# Altium schematic symbol library kmilo17pet-LT_OpAmp_LT1000.SchLib: 2280 symbols (part 14 of 79)
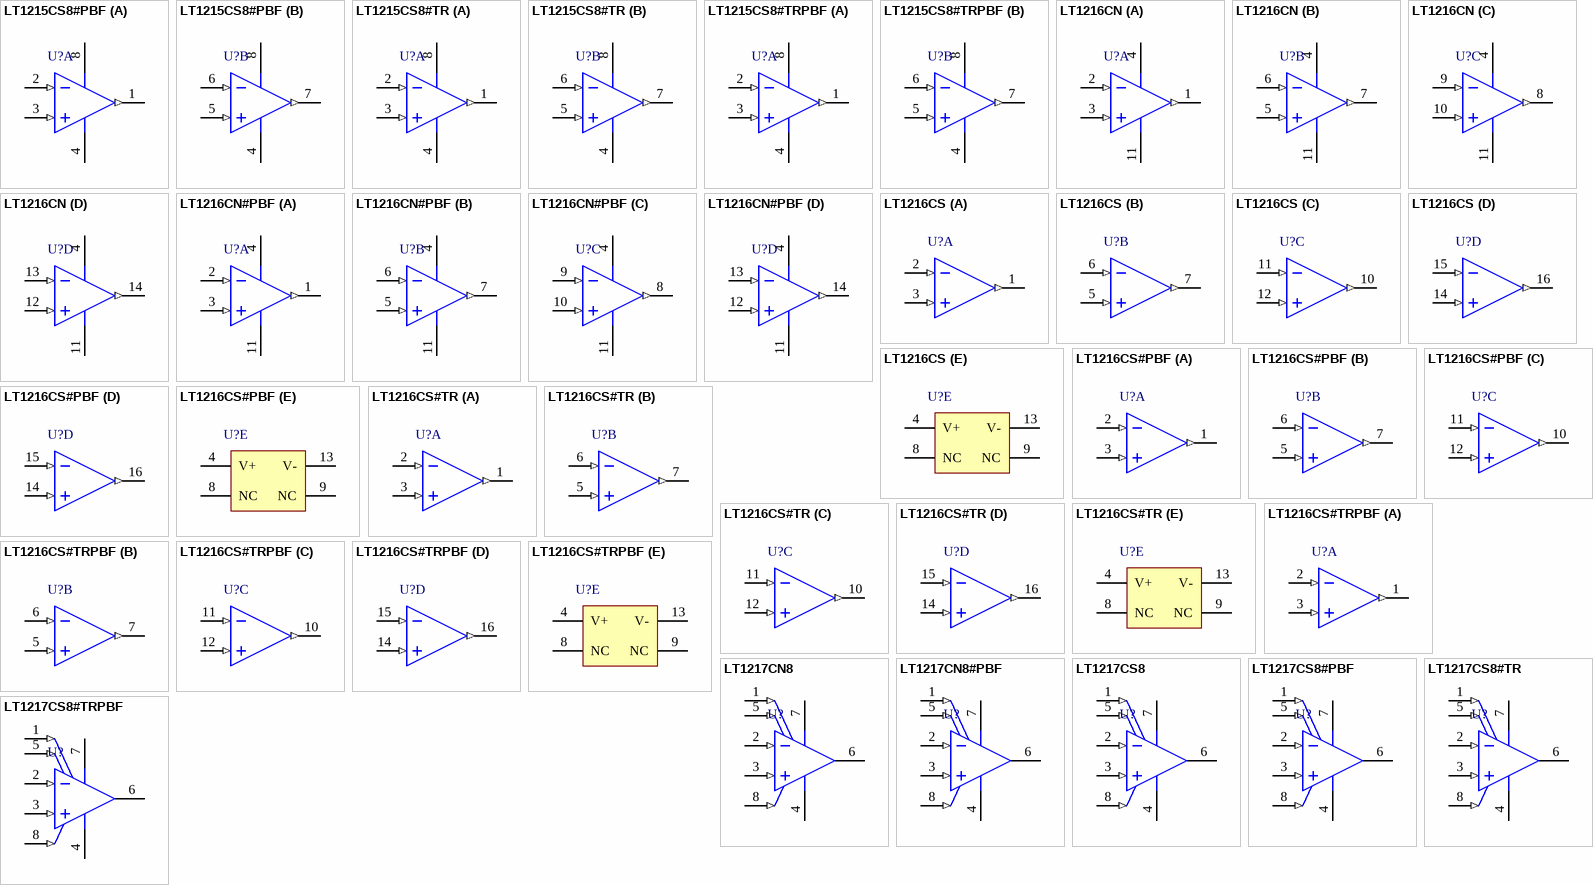
[diagram p118: symbols LT1215CS8#PBF to LT1217CS8#TRPBF]

## LT1216CS#TRPBF
designator U?
Quad Channel, Precision, Fast Operational Amplifier, 23 MHz Typical GBW, 30 V/us Typical SR, 2.5 to 36 V, 16-Pin SOIC (S-16), Commercial, Pb-Free, Reel; Linear Technology Part Number: LT1216; Manufacturer: Linear Technology; PartNumber: LT1216CS#TRPBF; Channels (#): 4; GBW (MHz) Typical: 23; Is (mA) Typical: 4.75; SR (V/us) Typical: 30; Vos (mV) Typical: 0.15; Vs Max (V): 36; Vs Min (V): 2.5; DatasheetVersion: Rev. B; PackageVersion: Rev G; PackageReference: LT-S-16; PackageDescription: 16-Lead Plastic Small Outline, Body 9.9 x 3.9 mm, Pitch 1.27 mm; Supplier 1: Digi-Key; Supplier Part Number 1: LT1216CS#TRPBF-ND; Packing: Reel; RoHS: Pb-Free; Type: VFB; Mounting Technology: Surface Mount; ComponentLink1Description: Manufacturer URL; ComponentLink1URL: http://www.linear.com/; ComponentLink2Description: Datasheet; ComponentLink2URL: http://cds.linear.com/docs/en/datasheet/12156fb.pdf; ComponentLink3Description: Package Specification; ComponentLink3URL: http://cds.linear.com/docs/en/packaging/S16%2005-08-1610%20Rev%20G.pdf
footprint LT-S-16_N (SOP, 16-Leads, Body 9.9x3.9mm, Pitch 1.27mm, IPC Medium Density)
footprint LT-S-16_L (SOP, 16-Leads, Body 9.9x3.9mm, Pitch 1.27mm, IPC High Density)
footprint LT-S-16_M (SOP, 16-Leads, Body 9.9x3.9mm, Pitch 1.27mm, IPC Low Density)
part A pins: 1 OUT A (out), 2 -IN A (in), 3 +IN A (in)
part B pins: 5 +IN B (in), 6 -IN B (in), 7 OUT B (out)
part C pins: 10 OUT C (out), 11 -IN C (in), 12 +IN C (in)
part D pins: 14 +IN D (in), 15 -IN D (in), 16 OUT D (out)
part E pins: 4 V+ (power), 8 NC, 9 NC, 13 V- (power)

## LT1217CN8
designator U?
Single Channel, Low Power CFA, 10 MHz Typical GBW, 500 V/us Typical SR, 10 to 36 V, 8-Pin DIP (N8-8), Commercial; Linear Technology Part Number: LT1217; Manufacturer: Linear Technology; PartNumber: LT1217CN8; Channels (#): 1; GBW (MHz) Typical: 10; SR (V/us) Typical: 500; Vs Max (V): 36; DatasheetVersion: Rev. 0; PackageVersion: Rev I; PackageReference: LT-N8-8; PackageDescription: 8-Lead PDIP, Body 10.16 x 6.48 mm, Pitch 2.54 mm; Supplier 1: Digi-Key; Supplier Part Number 1: LT1217CN8-ND; Is (mA) Typical: 1; Type: CFA; Vos (mV) Typical: 1; Vs Min (V): 10; Mounting Technology: Surface Mount; ComponentLink1Description: Manufacturer URL; ComponentLink1URL: http://www.linear.com/; ComponentLink2Description: Datasheet; ComponentLink2URL: http://cds.linear.com/docs/en/datasheet/lt1217.pdf; ComponentLink3Description: Package Specification; ComponentLink3URL: http://cds.linear.com/docs/en/packaging/05081510_I_N8.pdf
footprint LT-N8-8 (DIP, 8-Leads, Body 10.16x6.48mm, Pitch 2.54mm)
pins: 1 NULL (in), 2 -IN (in), 3 +IN (in), 4 V- (power), 5 NULL (in), 6 OUT (hiz), 7 V+ (power), 8 SHUTDOWN (in)

## LT1217CN8#PBF
designator U?
Single Channel, Low Power CFA, 10 MHz Typical GBW, 500 V/us Typical SR, 10 to 36 V, 8-Pin DIP (N8-8), Commercial, Pb-Free; Linear Technology Part Number: LT1217; Manufacturer: Linear Technology; PartNumber: LT1217CN8#PBF; Channels (#): 1; GBW (MHz) Typical: 10; SR (V/us) Typical: 500; Vs Max (V): 36; DatasheetVersion: Rev. 0; PackageVersion: Rev I; PackageReference: LT-N8-8; PackageDescription: 8-Lead PDIP, Body 10.16 x 6.48 mm, Pitch 2.54 mm; Supplier 1: Digi-Key; Supplier Part Number 1: LT1217CN8#PBF-ND; Is (mA) Typical: 1; RoHS: Pb-Free; Type: CFA; Vos (mV) Typical: 1; Vs Min (V): 10; Mounting Technology: Through Hole; ComponentLink1Description: Manufacturer URL; ComponentLink1URL: http://www.linear.com/; ComponentLink2Description: Datasheet; ComponentLink2URL: http://cds.linear.com/docs/en/datasheet/lt1217.pdf; ComponentLink3Description: Package Specification; ComponentLink3URL: http://cds.linear.com/docs/en/packaging/05081510_I_N8.pdf
footprint LT-N8-8 (DIP, 8-Leads, Body 10.16x6.48mm, Pitch 2.54mm)
pins: 1 NULL (in), 2 -IN (in), 3 +IN (in), 4 V- (power), 5 NULL (in), 6 OUT (hiz), 7 V+ (power), 8 SHUTDOWN (in)

## LT1217CS8
designator U?
Single Channel, Low Power CFA, 10 MHz Typical GBW, 500 V/us Typical SR, 10 to 36 V, 8-Pin SOIC (S8-8), Commercial; Linear Technology Part Number: LT1217; Manufacturer: Linear Technology; PartNumber: LT1217CS8; Channels (#): 1; GBW (MHz) Typical: 10; SR (V/us) Typical: 500; Vs Max (V): 36; DatasheetVersion: Rev. 0; PackageVersion: Rev G; PackageReference: LT-S8-8; PackageDescription: 8-Pin Plastic Small Outline, Body 4.9 x 3.9 mm, Pitch 1.27 mm; Supplier 1: Digi-Key; Supplier Part Number 1: LT1217CS8-ND; Is (mA) Typical: 1; Type: CFA; Vos (mV) Typical: 1; Vs Min (V): 10; Mounting Technology: Surface Mount; ComponentLink1Description: Manufacturer URL; ComponentLink1URL: http://www.linear.com/; ComponentLink2Description: Datasheet; ComponentLink2URL: http://cds.linear.com/docs/en/datasheet/lt1217.pdf; ComponentLink3Description: Package Specification; ComponentLink3URL: http://cds.linear.com/docs/en/packaging/05081610_G_SO8.pdf
footprint LT-S8-8_N (SOIC, 8-Leads, Body 4.9x3.9mm, Pitch 1.27mm, IPC Medium Density)
footprint LT-S8-8_L (SOIC, 8-Leads, Body 4.9x3.9mm, Pitch 1.27mm, IPC High Density)
footprint LT-S8-8_M (SOIC, 8-Leads, Body 4.9x3.9mm, Pitch 1.27mm, IPC Low Density)
pins: 1 NULL (in), 2 -IN (in), 3 +IN (in), 4 V- (power), 5 NULL (in), 6 OUT (hiz), 7 V+ (power), 8 SHUTDOWN (in)

## LT1217CS8#PBF
designator U?
Single Channel, Low Power CFA, 10 MHz Typical GBW, 500 V/us Typical SR, 10 to 36 V, 8-Pin SOIC (S8-8), Commercial, Pb-Free; Linear Technology Part Number: LT1217; Manufacturer: Linear Technology; PartNumber: LT1217CS8#PBF; Channels (#): 1; GBW (MHz) Typical: 10; SR (V/us) Typical: 500; Vs Max (V): 36; DatasheetVersion: Rev. 0; PackageVersion: Rev G; PackageReference: LT-S8-8; PackageDescription: 8-Pin Plastic Small Outline, Body 4.9 x 3.9 mm, Pitch 1.27 mm; Supplier 1: Digi-Key; Supplier Part Number 1: LT1217CS8#PBF-ND; Supplier 2: Farnell; Supplier Part Number 2: 2238146; Supplier 3: Newark; Supplier Part Number 3: 57M2763; Is (mA) Typical: 1; RoHS: Pb-Free; Type: CFA; Vos (mV) Typical: 1; Vs Min (V): 10; Mounting Technology: Surface Mount; ComponentLink1Description: Manufacturer URL; ComponentLink1URL: http://www.linear.com/; ComponentLink2Description: Datasheet; ComponentLink2URL: http://cds.linear.com/docs/en/datasheet/lt1217.pdf; ComponentLink3Description: Package Specification; ComponentLink3URL: http://cds.linear.com/docs/en/packaging/05081610_G_SO8.pdf
footprint LT-S8-8_N (SOIC, 8-Leads, Body 4.9x3.9mm, Pitch 1.27mm, IPC Medium Density)
footprint LT-S8-8_L (SOIC, 8-Leads, Body 4.9x3.9mm, Pitch 1.27mm, IPC High Density)
footprint LT-S8-8_M (SOIC, 8-Leads, Body 4.9x3.9mm, Pitch 1.27mm, IPC Low Density)
pins: 1 NULL (in), 2 -IN (in), 3 +IN (in), 4 V- (power), 5 NULL (in), 6 OUT (hiz), 7 V+ (power), 8 SHUTDOWN (in)

## LT1217CS8#TR
designator U?
Single Channel, Low Power CFA, 10 MHz Typical GBW, 500 V/us Typical SR, 10 to 36 V, 8-Pin SOIC (S8-8), Commercial, Reel; Linear Technology Part Number: LT1217; Manufacturer: Linear Technology; PartNumber: LT1217CS8#TR; Channels (#): 1; GBW (MHz) Typical: 10; SR (V/us) Typical: 500; Vs Max (V): 36; DatasheetVersion: Rev. 0; PackageVersion: Rev G; PackageReference: LT-S8-8; PackageDescription: 8-Pin Plastic Small Outline, Body 4.9 x 3.9 mm, Pitch 1.27 mm; Supplier 1: Digi-Key; Supplier Part Number 1: LT1217CS8#TR-ND; Is (mA) Typical: 1; Packing: Reel; Type: CFA; Vos (mV) Typical: 1; Vs Min (V): 10; Mounting Technology: Surface Mount; ComponentLink1Description: Manufacturer URL; ComponentLink1URL: http://www.linear.com/; ComponentLink2Description: Datasheet; ComponentLink2URL: http://cds.linear.com/docs/en/datasheet/lt1217.pdf; ComponentLink3Description: Package Specification; ComponentLink3URL: http://cds.linear.com/docs/en/packaging/05081610_G_SO8.pdf
footprint LT-S8-8_N (SOIC, 8-Leads, Body 4.9x3.9mm, Pitch 1.27mm, IPC Medium Density)
footprint LT-S8-8_L (SOIC, 8-Leads, Body 4.9x3.9mm, Pitch 1.27mm, IPC High Density)
footprint LT-S8-8_M (SOIC, 8-Leads, Body 4.9x3.9mm, Pitch 1.27mm, IPC Low Density)
pins: 1 NULL (in), 2 -IN (in), 3 +IN (in), 4 V- (power), 5 NULL (in), 6 OUT (hiz), 7 V+ (power), 8 SHUTDOWN (in)

## LT1217CS8#TRPBF
designator U?
Single Channel, Low Power CFA, 10 MHz Typical GBW, 500 V/us Typical SR, 10 to 36 V, 8-Pin SOIC (S8-8), Commercial, Pb-Free, Reel; Linear Technology Part Number: LT1217; Manufacturer: Linear Technology; PartNumber: LT1217CS8#TRPBF; Channels (#): 1; GBW (MHz) Typical: 10; SR (V/us) Typical: 500; Vs Max (V): 36; DatasheetVersion: Rev. 0; PackageVersion: Rev G; PackageReference: LT-S8-8; PackageDescription: 8-Pin Plastic Small Outline, Body 4.9 x 3.9 mm, Pitch 1.27 mm; Supplier 1: Digi-Key; Supplier Part Number 1: LT1217CS8#TRPBF-ND; Is (mA) Typical: 1; Packing: Reel; RoHS: Pb-Free; Type: CFA; Vos (mV) Typical: 1; Vs Min (V): 10; Mounting Technology: Surface Mount; ComponentLink1Description: Manufacturer URL; ComponentLink1URL: http://www.linear.com/; ComponentLink2Description: Datasheet; ComponentLink2URL: http://cds.linear.com/docs/en/datasheet/lt1217.pdf; ComponentLink3Description: Package Specification; ComponentLink3URL: http://cds.linear.com/docs/en/packaging/05081610_G_SO8.pdf
footprint LT-S8-8_N (SOIC, 8-Leads, Body 4.9x3.9mm, Pitch 1.27mm, IPC Medium Density)
footprint LT-S8-8_L (SOIC, 8-Leads, Body 4.9x3.9mm, Pitch 1.27mm, IPC High Density)
footprint LT-S8-8_M (SOIC, 8-Leads, Body 4.9x3.9mm, Pitch 1.27mm, IPC Low Density)
pins: 1 NULL (in), 2 -IN (in), 3 +IN (in), 4 V- (power), 5 NULL (in), 6 OUT (hiz), 7 V+ (power), 8 SHUTDOWN (in)

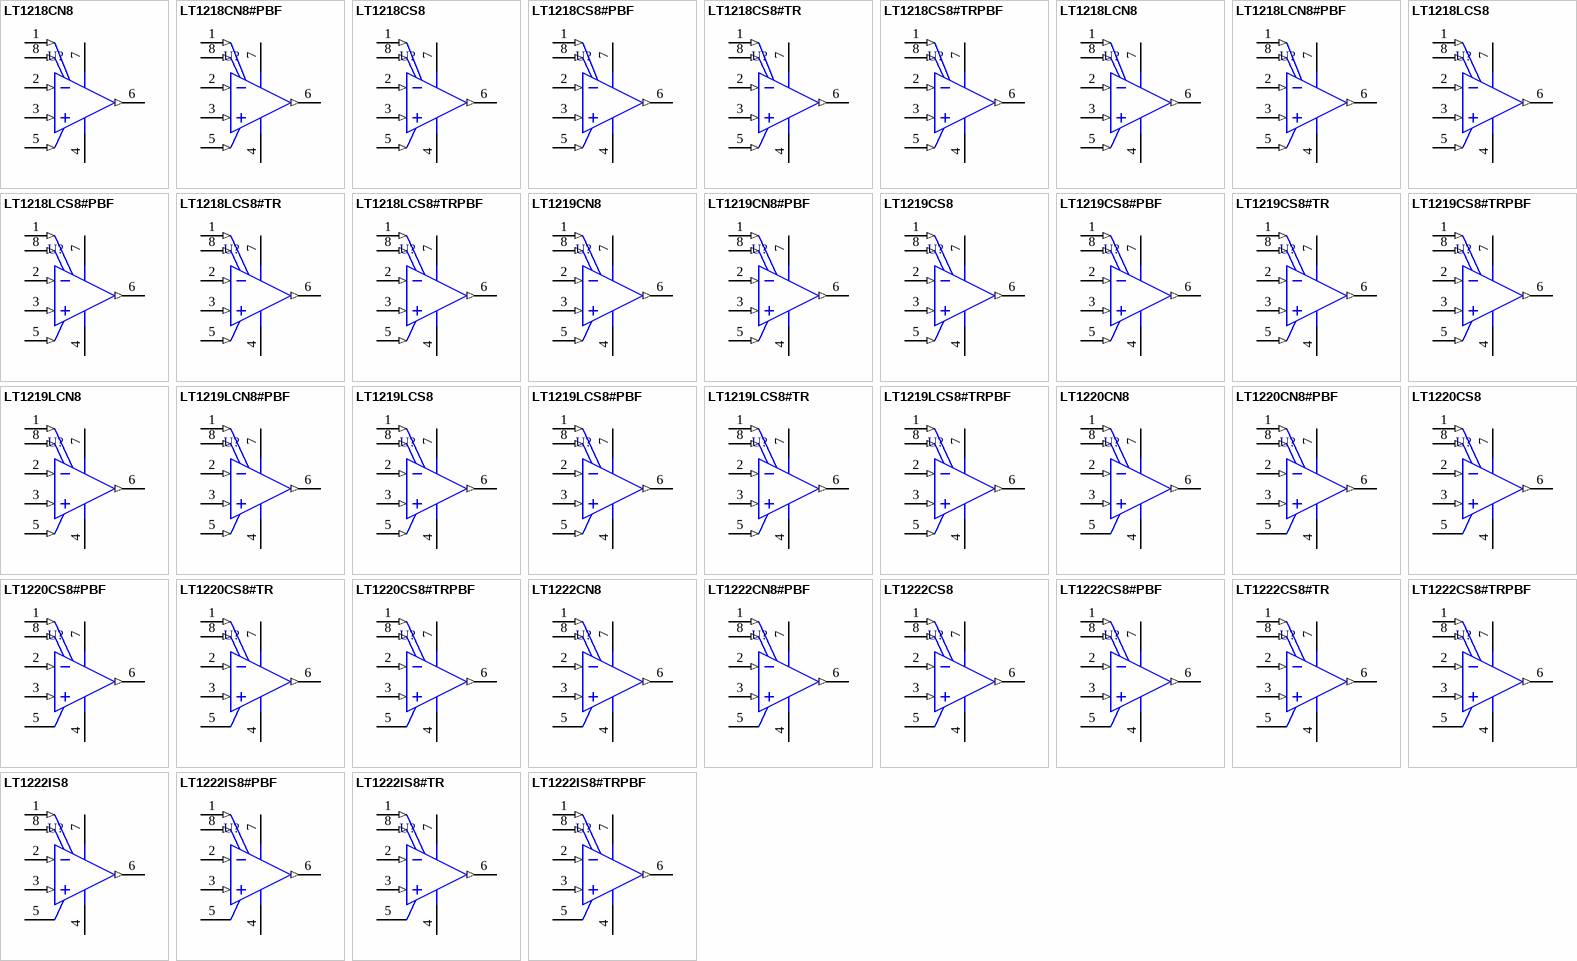
[diagram p20: symbols LT1218CN8 to LT1222IS8#TRPBF]

## LT1218CN8
designator U?
Single Channel, Low Vos Operational Amplifier, 0.3 MHz Typical GBW, 0.1 V/us Typical SR, 2 to 36 V, 8-Pin DIP (N8-8), Commercial; Linear Technology Part Number: LT1218; Manufacturer: Linear Technology; PartNumber: LT1218CN8; Channels (#): 1; GBW (MHz) Typical: 0.3; Is (mA) Typical: 0.37; SR (V/us) Typical: 0.1; Vos (mV) Typical: 0.025; Vs Max (V): 36; Vs Min (V): 2; PackageVersion: Rev I; PackageReference: LT-N8-8; PackageDescription: 8-Lead PDIP, Body 10.16 x 6.48 mm, Pitch 2.54 mm; Supplier 1: Digi-Key; Supplier Part Number 1: LT1218CN8-ND; Type: VFB; Mounting Technology: Surface Mount; ComponentLink1Description: Manufacturer URL; ComponentLink1URL: http://www.linear.com/; ComponentLink2Description: Datasheet; ComponentLink2URL: http://cds.linear.com/docs/en/datasheet/12189f.pdf; ComponentLink3Description: Package Specification; ComponentLink3URL: http://cds.linear.com/docs/en/packaging/05081510_I_N8.pdf
footprint LT-N8-8 (DIP, 8-Leads, Body 10.16x6.48mm, Pitch 2.54mm)
pins: 1 VOS TRIM (in), 2 -IN (in), 3 +IN (in), 4 V- (power), 5 ~{SHDN} (in), 6 OUT (out), 7 V+ (power), 8 VOS TRIM (in)

## LT1218CN8#PBF
designator U?
Single Channel, Low Vos Operational Amplifier, 0.3 MHz Typical GBW, 0.1 V/us Typical SR, 2 to 36 V, 8-Pin DIP (N8-8), Commercial, Pb-Free; Linear Technology Part Number: LT1218; Manufacturer: Linear Technology; PartNumber: LT1218CN8#PBF; Channels (#): 1; GBW (MHz) Typical: 0.3; Is (mA) Typical: 0.37; SR (V/us) Typical: 0.1; Vos (mV) Typical: 0.025; Vs Max (V): 36; Vs Min (V): 2; PackageVersion: Rev I; PackageReference: LT-N8-8; PackageDescription: 8-Lead PDIP, Body 10.16 x 6.48 mm, Pitch 2.54 mm; Supplier 1: Digi-Key; Supplier Part Number 1: LT1218CN8#PBF-ND; Supplier 2: Farnell; Supplier Part Number 2: 1330616; Supplier 3: Newark; Supplier Part Number 3: 57M2767; RoHS: Pb-Free; Type: VFB; Mounting Technology: Through Hole; ComponentLink1Description: Manufacturer URL; ComponentLink1URL: http://www.linear.com/; ComponentLink2Description: Datasheet; ComponentLink2URL: http://cds.linear.com/docs/en/datasheet/12189f.pdf; ComponentLink3Description: Package Specification; ComponentLink3URL: http://cds.linear.com/docs/en/packaging/05081510_I_N8.pdf
footprint LT-N8-8 (DIP, 8-Leads, Body 10.16x6.48mm, Pitch 2.54mm)
pins: 1 VOS TRIM (in), 2 -IN (in), 3 +IN (in), 4 V- (power), 5 ~{SHDN} (in), 6 OUT (out), 7 V+ (power), 8 VOS TRIM (in)

## LT1218CS8
designator U?
Single Channel, Low Vos Operational Amplifier, 0.3 MHz Typical GBW, 0.1 V/us Typical SR, 2 to 36 V, 8-Pin SOIC (S8-8), Commercial; Linear Technology Part Number: LT1218; Manufacturer: Linear Technology; PartNumber: LT1218CS8; Channels (#): 1; GBW (MHz) Typical: 0.3; Is (mA) Typical: 0.37; SR (V/us) Typical: 0.1; Vos (mV) Typical: 0.025; Vs Max (V): 36; Vs Min (V): 2; PackageVersion: Rev G; PackageReference: LT-S8-8; PackageDescription: 8-Pin Plastic Small Outline, Body 4.9 x 3.9 mm, Pitch 1.27 mm; Supplier 1: Digi-Key; Supplier Part Number 1: LT1218CS8-ND; Type: VFB; Mounting Technology: Surface Mount; ComponentLink1Description: Manufacturer URL; ComponentLink1URL: http://www.linear.com/; ComponentLink2Description: Datasheet; ComponentLink2URL: http://cds.linear.com/docs/en/datasheet/12189f.pdf; ComponentLink3Description: Package Specification; ComponentLink3URL: http://cds.linear.com/docs/en/packaging/05081610_G_SO8.pdf
footprint LT-S8-8_N (SOIC, 8-Leads, Body 4.9x3.9mm, Pitch 1.27mm, IPC Medium Density)
footprint LT-S8-8_L (SOIC, 8-Leads, Body 4.9x3.9mm, Pitch 1.27mm, IPC High Density)
footprint LT-S8-8_M (SOIC, 8-Leads, Body 4.9x3.9mm, Pitch 1.27mm, IPC Low Density)
pins: 1 VOS TRIM (in), 2 -IN (in), 3 +IN (in), 4 V- (power), 5 ~{SHDN} (in), 6 OUT (out), 7 V+ (power), 8 VOS TRIM (in)

## LT1218CS8#PBF
designator U?
Single Channel, Low Vos Operational Amplifier, 0.3 MHz Typical GBW, 0.1 V/us Typical SR, 2 to 36 V, 8-Pin SOIC (S8-8), Commercial, Pb-Free; Linear Technology Part Number: LT1218; Manufacturer: Linear Technology; PartNumber: LT1218CS8#PBF; Channels (#): 1; GBW (MHz) Typical: 0.3; Is (mA) Typical: 0.37; SR (V/us) Typical: 0.1; Vos (mV) Typical: 0.025; Vs Max (V): 36; Vs Min (V): 2; PackageVersion: Rev G; PackageReference: LT-S8-8; PackageDescription: 8-Pin Plastic Small Outline, Body 4.9 x 3.9 mm, Pitch 1.27 mm; Supplier 1: Digi-Key; Supplier Part Number 1: LT1218CS8#PBF-ND; RoHS: Pb-Free; Type: VFB; Mounting Technology: Surface Mount; ComponentLink1Description: Manufacturer URL; ComponentLink1URL: http://www.linear.com/; ComponentLink2Description: Datasheet; ComponentLink2URL: http://cds.linear.com/docs/en/datasheet/12189f.pdf; ComponentLink3Description: Package Specification; ComponentLink3URL: http://cds.linear.com/docs/en/packaging/05081610_G_SO8.pdf
footprint LT-S8-8_N (SOIC, 8-Leads, Body 4.9x3.9mm, Pitch 1.27mm, IPC Medium Density)
footprint LT-S8-8_L (SOIC, 8-Leads, Body 4.9x3.9mm, Pitch 1.27mm, IPC High Density)
footprint LT-S8-8_M (SOIC, 8-Leads, Body 4.9x3.9mm, Pitch 1.27mm, IPC Low Density)
pins: 1 VOS TRIM (in), 2 -IN (in), 3 +IN (in), 4 V- (power), 5 ~{SHDN} (in), 6 OUT (out), 7 V+ (power), 8 VOS TRIM (in)

## LT1218CS8#TR
designator U?
Single Channel, Low Vos Operational Amplifier, 0.3 MHz Typical GBW, 0.1 V/us Typical SR, 2 to 36 V, 8-Pin SOIC (S8-8), Commercial, Reel; Linear Technology Part Number: LT1218; Manufacturer: Linear Technology; PartNumber: LT1218CS8#TR; Channels (#): 1; GBW (MHz) Typical: 0.3; Is (mA) Typical: 0.37; SR (V/us) Typical: 0.1; Vos (mV) Typical: 0.025; Vs Max (V): 36; Vs Min (V): 2; PackageVersion: Rev G; PackageReference: LT-S8-8; PackageDescription: 8-Pin Plastic Small Outline, Body 4.9 x 3.9 mm, Pitch 1.27 mm; Supplier 1: Digi-Key; Supplier Part Number 1: LT1218CS8#TR-ND; Packing: Reel; Type: VFB; Mounting Technology: Surface Mount; ComponentLink1Description: Manufacturer URL; ComponentLink1URL: http://www.linear.com/; ComponentLink2Description: Datasheet; ComponentLink2URL: http://cds.linear.com/docs/en/datasheet/12189f.pdf; ComponentLink3Description: Package Specification; ComponentLink3URL: http://cds.linear.com/docs/en/packaging/05081610_G_SO8.pdf
footprint LT-S8-8_N (SOIC, 8-Leads, Body 4.9x3.9mm, Pitch 1.27mm, IPC Medium Density)
footprint LT-S8-8_L (SOIC, 8-Leads, Body 4.9x3.9mm, Pitch 1.27mm, IPC High Density)
footprint LT-S8-8_M (SOIC, 8-Leads, Body 4.9x3.9mm, Pitch 1.27mm, IPC Low Density)
pins: 1 VOS TRIM (in), 2 -IN (in), 3 +IN (in), 4 V- (power), 5 ~{SHDN} (in), 6 OUT (out), 7 V+ (power), 8 VOS TRIM (in)

## LT1218CS8#TRPBF
designator U?
Single Channel, Low Vos Operational Amplifier, 0.3 MHz Typical GBW, 0.1 V/us Typical SR, 2 to 36 V, 8-Pin SOIC (S8-8), Commercial, Pb-Free, Reel; Linear Technology Part Number: LT1218; Manufacturer: Linear Technology; PartNumber: LT1218CS8#TRPBF; Channels (#): 1; GBW (MHz) Typical: 0.3; Is (mA) Typical: 0.37; SR (V/us) Typical: 0.1; Vos (mV) Typical: 0.025; Vs Max (V): 36; Vs Min (V): 2; PackageVersion: Rev G; PackageReference: LT-S8-8; PackageDescription: 8-Pin Plastic Small Outline, Body 4.9 x 3.9 mm, Pitch 1.27 mm; Supplier 1: Digi-Key; Supplier Part Number 1: LT1218CS8#TRPBF-ND; Packing: Reel; RoHS: Pb-Free; Type: VFB; Mounting Technology: Surface Mount; ComponentLink1Description: Manufacturer URL; ComponentLink1URL: http://www.linear.com/; ComponentLink2Description: Datasheet; ComponentLink2URL: http://cds.linear.com/docs/en/datasheet/12189f.pdf; ComponentLink3Description: Package Specification; ComponentLink3URL: http://cds.linear.com/docs/en/packaging/05081610_G_SO8.pdf
footprint LT-S8-8_N (SOIC, 8-Leads, Body 4.9x3.9mm, Pitch 1.27mm, IPC Medium Density)
footprint LT-S8-8_L (SOIC, 8-Leads, Body 4.9x3.9mm, Pitch 1.27mm, IPC High Density)
footprint LT-S8-8_M (SOIC, 8-Leads, Body 4.9x3.9mm, Pitch 1.27mm, IPC Low Density)
pins: 1 VOS TRIM (in), 2 -IN (in), 3 +IN (in), 4 V- (power), 5 ~{SHDN} (in), 6 OUT (out), 7 V+ (power), 8 VOS TRIM (in)

## LT1218LCN8
designator U?
Single Channel, Low Vos Operational Amplifier, 0.3 MHz Typical GBW, 0.1 V/us Typical SR, 2 to 16 V, 8-Pin DIP (N8-8), Commercial; Linear Technology Part Number: LT1218L; Manufacturer: Linear Technology; PartNumber: LT1218LCN8; Channels (#): 1; GBW (MHz) Typical: 0.3; Is (mA) Typical: 0.37; SR (V/us) Typical: 0.1; Vos (mV) Typical: 0.025; Vs Max (V): 16; Vs Min (V): 2; PackageVersion: Rev I; PackageReference: LT-N8-8; PackageDescription: 8-Lead PDIP, Body 10.16 x 6.48 mm, Pitch 2.54 mm; Supplier 1: Digi-Key; Supplier Part Number 1: LT1218LCN8-ND; Type: VFB; Mounting Technology: Surface Mount; ComponentLink1Description: Manufacturer URL; ComponentLink1URL: http://www.linear.com/; ComponentLink2Description: Datasheet; ComponentLink2URL: http://cds.linear.com/docs/en/datasheet/12189f.pdf; ComponentLink3Description: Package Specification; ComponentLink3URL: http://cds.linear.com/docs/en/packaging/05081510_I_N8.pdf
footprint LT-N8-8 (DIP, 8-Leads, Body 10.16x6.48mm, Pitch 2.54mm)
pins: 1 VOS TRIM (in), 2 -IN (in), 3 +IN (in), 4 V- (power), 5 ~{SHDN} (in), 6 OUT (out), 7 V+ (power), 8 VOS TRIM (in)

## LT1218LCN8#PBF
designator U?
Single Channel, Low Vos Operational Amplifier, 0.3 MHz Typical GBW, 0.1 V/us Typical SR, 2 to 16 V, 8-Pin DIP (N8-8), Commercial, Pb-Free; Linear Technology Part Number: LT1218L; Manufacturer: Linear Technology; PartNumber: LT1218LCN8#PBF; Channels (#): 1; GBW (MHz) Typical: 0.3; Is (mA) Typical: 0.37; SR (V/us) Typical: 0.1; Vos (mV) Typical: 0.025; Vs Max (V): 16; Vs Min (V): 2; PackageVersion: Rev I; PackageReference: LT-N8-8; PackageDescription: 8-Lead PDIP, Body 10.16 x 6.48 mm, Pitch 2.54 mm; Supplier 1: Digi-Key; Supplier Part Number 1: LT1218LCN8#PBF-ND; RoHS: Pb-Free; Type: VFB; Mounting Technology: Through Hole; ComponentLink1Description: Manufacturer URL; ComponentLink1URL: http://www.linear.com/; ComponentLink2Description: Datasheet; ComponentLink2URL: http://cds.linear.com/docs/en/datasheet/12189f.pdf; ComponentLink3Description: Package Specification; ComponentLink3URL: http://cds.linear.com/docs/en/packaging/05081510_I_N8.pdf
footprint LT-N8-8 (DIP, 8-Leads, Body 10.16x6.48mm, Pitch 2.54mm)
pins: 1 VOS TRIM (in), 2 -IN (in), 3 +IN (in), 4 V- (power), 5 ~{SHDN} (in), 6 OUT (out), 7 V+ (power), 8 VOS TRIM (in)

## LT1218LCS8
designator U?
Single Channel, Low Vos Operational Amplifier, 0.3 MHz Typical GBW, 0.1 V/us Typical SR, 2 to 16 V, 8-Pin SOIC (S8-8), Commercial; Linear Technology Part Number: LT1218L; Manufacturer: Linear Technology; PartNumber: LT1218LCS8; Channels (#): 1; GBW (MHz) Typical: 0.3; Is (mA) Typical: 0.37; SR (V/us) Typical: 0.1; Vos (mV) Typical: 0.025; Vs Max (V): 16; Vs Min (V): 2; PackageVersion: Rev G; PackageReference: LT-S8-8; PackageDescription: 8-Pin Plastic Small Outline, Body 4.9 x 3.9 mm, Pitch 1.27 mm; Supplier 1: Digi-Key; Supplier Part Number 1: LT1218LCS8-ND; Type: VFB; Mounting Technology: Surface Mount; ComponentLink1Description: Manufacturer URL; ComponentLink1URL: http://www.linear.com/; ComponentLink2Description: Datasheet; ComponentLink2URL: http://cds.linear.com/docs/en/datasheet/12189f.pdf; ComponentLink3Description: Package Specification; ComponentLink3URL: http://cds.linear.com/docs/en/packaging/05081610_G_SO8.pdf
footprint LT-S8-8_N (SOIC, 8-Leads, Body 4.9x3.9mm, Pitch 1.27mm, IPC Medium Density)
footprint LT-S8-8_L (SOIC, 8-Leads, Body 4.9x3.9mm, Pitch 1.27mm, IPC High Density)
footprint LT-S8-8_M (SOIC, 8-Leads, Body 4.9x3.9mm, Pitch 1.27mm, IPC Low Density)
pins: 1 VOS TRIM (in), 2 -IN (in), 3 +IN (in), 4 V- (power), 5 ~{SHDN} (in), 6 OUT (out), 7 V+ (power), 8 VOS TRIM (in)

## LT1218LCS8#PBF
designator U?
Single Channel, Low Vos Operational Amplifier, 0.3 MHz Typical GBW, 0.1 V/us Typical SR, 2 to 16 V, 8-Pin SOIC (S8-8), Commercial, Pb-Free; Linear Technology Part Number: LT1218L; Manufacturer: Linear Technology; PartNumber: LT1218LCS8#PBF; Channels (#): 1; GBW (MHz) Typical: 0.3; Is (mA) Typical: 0.37; SR (V/us) Typical: 0.1; Vos (mV) Typical: 0.025; Vs Max (V): 16; Vs Min (V): 2; PackageVersion: Rev G; PackageReference: LT-S8-8; PackageDescription: 8-Pin Plastic Small Outline, Body 4.9 x 3.9 mm, Pitch 1.27 mm; Supplier 1: Digi-Key; Supplier Part Number 1: LT1218LCS8#PBF-ND; Supplier 2: Farnell; Supplier Part Number 2: 1663399; RoHS: Pb-Free; Type: VFB; Mounting Technology: Surface Mount; ComponentLink1Description: Manufacturer URL; ComponentLink1URL: http://www.linear.com/; ComponentLink2Description: Datasheet; ComponentLink2URL: http://cds.linear.com/docs/en/datasheet/12189f.pdf; ComponentLink3Description: Package Specification; ComponentLink3URL: http://cds.linear.com/docs/en/packaging/05081610_G_SO8.pdf
footprint LT-S8-8_N (SOIC, 8-Leads, Body 4.9x3.9mm, Pitch 1.27mm, IPC Medium Density)
footprint LT-S8-8_L (SOIC, 8-Leads, Body 4.9x3.9mm, Pitch 1.27mm, IPC High Density)
footprint LT-S8-8_M (SOIC, 8-Leads, Body 4.9x3.9mm, Pitch 1.27mm, IPC Low Density)
pins: 1 VOS TRIM (in), 2 -IN (in), 3 +IN (in), 4 V- (power), 5 ~{SHDN} (in), 6 OUT (out), 7 V+ (power), 8 VOS TRIM (in)

## LT1218LCS8#TR
designator U?
Single Channel, Low Vos Operational Amplifier, 0.3 MHz Typical GBW, 0.1 V/us Typical SR, 2 to 16 V, 8-Pin SOIC (S8-8), Commercial, Reel; Linear Technology Part Number: LT1218L; Manufacturer: Linear Technology; PartNumber: LT1218LCS8#TR; Channels (#): 1; GBW (MHz) Typical: 0.3; Is (mA) Typical: 0.37; SR (V/us) Typical: 0.1; Vos (mV) Typical: 0.025; Vs Max (V): 16; Vs Min (V): 2; PackageVersion: Rev G; PackageReference: LT-S8-8; PackageDescription: 8-Pin Plastic Small Outline, Body 4.9 x 3.9 mm, Pitch 1.27 mm; Supplier 1: Digi-Key; Supplier Part Number 1: LT1218LCS8#TR-ND; Packing: Reel; Type: VFB; Mounting Technology: Surface Mount; ComponentLink1Description: Manufacturer URL; ComponentLink1URL: http://www.linear.com/; ComponentLink2Description: Datasheet; ComponentLink2URL: http://cds.linear.com/docs/en/datasheet/12189f.pdf; ComponentLink3Description: Package Specification; ComponentLink3URL: http://cds.linear.com/docs/en/packaging/05081610_G_SO8.pdf
footprint LT-S8-8_N (SOIC, 8-Leads, Body 4.9x3.9mm, Pitch 1.27mm, IPC Medium Density)
footprint LT-S8-8_L (SOIC, 8-Leads, Body 4.9x3.9mm, Pitch 1.27mm, IPC High Density)
footprint LT-S8-8_M (SOIC, 8-Leads, Body 4.9x3.9mm, Pitch 1.27mm, IPC Low Density)
pins: 1 VOS TRIM (in), 2 -IN (in), 3 +IN (in), 4 V- (power), 5 ~{SHDN} (in), 6 OUT (out), 7 V+ (power), 8 VOS TRIM (in)

## LT1218LCS8#TRPBF
designator U?
Single Channel, Low Vos Operational Amplifier, 0.3 MHz Typical GBW, 0.1 V/us Typical SR, 2 to 16 V, 8-Pin SOIC (S8-8), Commercial, Pb-Free, Reel; Linear Technology Part Number: LT1218L; Manufacturer: Linear Technology; PartNumber: LT1218LCS8#TRPBF; Channels (#): 1; GBW (MHz) Typical: 0.3; Is (mA) Typical: 0.37; SR (V/us) Typical: 0.1; Vos (mV) Typical: 0.025; Vs Max (V): 16; Vs Min (V): 2; PackageVersion: Rev G; PackageReference: LT-S8-8; PackageDescription: 8-Pin Plastic Small Outline, Body 4.9 x 3.9 mm, Pitch 1.27 mm; Supplier 1: Digi-Key; Supplier Part Number 1: LT1218LCS8#TRPBF-ND; Packing: Reel; RoHS: Pb-Free; Type: VFB; Mounting Technology: Surface Mount; ComponentLink1Description: Manufacturer URL; ComponentLink1URL: http://www.linear.com/; ComponentLink2Description: Datasheet; ComponentLink2URL: http://cds.linear.com/docs/en/datasheet/12189f.pdf; ComponentLink3Description: Package Specification; ComponentLink3URL: http://cds.linear.com/docs/en/packaging/05081610_G_SO8.pdf
footprint LT-S8-8_N (SOIC, 8-Leads, Body 4.9x3.9mm, Pitch 1.27mm, IPC Medium Density)
footprint LT-S8-8_L (SOIC, 8-Leads, Body 4.9x3.9mm, Pitch 1.27mm, IPC High Density)
footprint LT-S8-8_M (SOIC, 8-Leads, Body 4.9x3.9mm, Pitch 1.27mm, IPC Low Density)
pins: 1 VOS TRIM (in), 2 -IN (in), 3 +IN (in), 4 V- (power), 5 ~{SHDN} (in), 6 OUT (out), 7 V+ (power), 8 VOS TRIM (in)

## LT1219CN8
designator U?
Single Channel, Low Vos Operational Amplifier, 0.15 MHz Typical GBW, 0.05 V/us Typical SR, 2 to 36 V, 8-Pin DIP (N8-8), Commercial; Linear Technology Part Number: LT1219; Manufacturer: Linear Technology; PartNumber: LT1219CN8; Channels (#): 1; GBW (MHz) Typical: 0.15; Is (mA) Typical: 0.37; SR (V/us) Typical: 0.05; Vos (mV) Typical: 0.025; Vs Max (V): 36; Vs Min (V): 2; PackageVersion: Rev I; PackageReference: LT-N8-8; PackageDescription: 8-Lead PDIP, Body 10.16 x 6.48 mm, Pitch 2.54 mm; Supplier 1: Digi-Key; Supplier Part Number 1: LT1219CN8-ND; Type: VFB; Mounting Technology: Surface Mount; ComponentLink1Description: Manufacturer URL; ComponentLink1URL: http://www.linear.com/; ComponentLink2Description: Datasheet; ComponentLink2URL: http://cds.linear.com/docs/en/datasheet/12189f.pdf; ComponentLink3Description: Package Specification; ComponentLink3URL: http://cds.linear.com/docs/en/packaging/05081510_I_N8.pdf
footprint LT-N8-8 (DIP, 8-Leads, Body 10.16x6.48mm, Pitch 2.54mm)
pins: 1 VOS TRIM (in), 2 -IN (in), 3 +IN (in), 4 V- (power), 5 ~{SHDN} (in), 6 OUT (out), 7 V+ (power), 8 VOS TRIM (in)

## LT1219CN8#PBF
designator U?
Single Channel, Low Vos Operational Amplifier, 0.15 MHz Typical GBW, 0.05 V/us Typical SR, 2 to 36 V, 8-Pin DIP (N8-8), Commercial, Pb-Free; Linear Technology Part Number: LT1219; Manufacturer: Linear Technology; PartNumber: LT1219CN8#PBF; Channels (#): 1; GBW (MHz) Typical: 0.15; Is (mA) Typical: 0.37; SR (V/us) Typical: 0.05; Vos (mV) Typical: 0.025; Vs Max (V): 36; Vs Min (V): 2; PackageVersion: Rev I; PackageReference: LT-N8-8; PackageDescription: 8-Lead PDIP, Body 10.16 x 6.48 mm, Pitch 2.54 mm; Supplier 1: Digi-Key; Supplier Part Number 1: LT1219CN8#PBF-ND; Supplier 2: Farnell; Supplier Part Number 2: 1330617; RoHS: Pb-Free; Type: VFB; Mounting Technology: Through Hole; ComponentLink1Description: Manufacturer URL; ComponentLink1URL: http://www.linear.com/; ComponentLink2Description: Datasheet; ComponentLink2URL: http://cds.linear.com/docs/en/datasheet/12189f.pdf; ComponentLink3Description: Package Specification; ComponentLink3URL: http://cds.linear.com/docs/en/packaging/05081510_I_N8.pdf
footprint LT-N8-8 (DIP, 8-Leads, Body 10.16x6.48mm, Pitch 2.54mm)
pins: 1 VOS TRIM (in), 2 -IN (in), 3 +IN (in), 4 V- (power), 5 ~{SHDN} (in), 6 OUT (out), 7 V+ (power), 8 VOS TRIM (in)

## LT1219CS8
designator U?
Single Channel, Low Vos Operational Amplifier, 0.15 MHz Typical GBW, 0.05 V/us Typical SR, 2 to 36 V, 8-Pin SOIC (S8-8), Commercial; Linear Technology Part Number: LT1219; Manufacturer: Linear Technology; PartNumber: LT1219CS8; Channels (#): 1; GBW (MHz) Typical: 0.15; Is (mA) Typical: 0.37; SR (V/us) Typical: 0.05; Vos (mV) Typical: 0.025; Vs Max (V): 36; Vs Min (V): 2; PackageVersion: Rev G; PackageReference: LT-S8-8; PackageDescription: 8-Pin Plastic Small Outline, Body 4.9 x 3.9 mm, Pitch 1.27 mm; Supplier 1: Digi-Key; Supplier Part Number 1: LT1219CS8-ND; Type: VFB; Mounting Technology: Surface Mount; ComponentLink1Description: Manufacturer URL; ComponentLink1URL: http://www.linear.com/; ComponentLink2Description: Datasheet; ComponentLink2URL: http://cds.linear.com/docs/en/datasheet/12189f.pdf; ComponentLink3Description: Package Specification; ComponentLink3URL: http://cds.linear.com/docs/en/packaging/05081610_G_SO8.pdf
footprint LT-S8-8_N (SOIC, 8-Leads, Body 4.9x3.9mm, Pitch 1.27mm, IPC Medium Density)
footprint LT-S8-8_L (SOIC, 8-Leads, Body 4.9x3.9mm, Pitch 1.27mm, IPC High Density)
footprint LT-S8-8_M (SOIC, 8-Leads, Body 4.9x3.9mm, Pitch 1.27mm, IPC Low Density)
pins: 1 VOS TRIM (in), 2 -IN (in), 3 +IN (in), 4 V- (power), 5 ~{SHDN} (in), 6 OUT (out), 7 V+ (power), 8 VOS TRIM (in)

## LT1219CS8#PBF
designator U?
Single Channel, Low Vos Operational Amplifier, 0.15 MHz Typical GBW, 0.05 V/us Typical SR, 2 to 36 V, 8-Pin SOIC (S8-8), Commercial, Pb-Free; Linear Technology Part Number: LT1219; Manufacturer: Linear Technology; PartNumber: LT1219CS8#PBF; Channels (#): 1; GBW (MHz) Typical: 0.15; Is (mA) Typical: 0.37; SR (V/us) Typical: 0.05; Vos (mV) Typical: 0.025; Vs Max (V): 36; Vs Min (V): 2; PackageVersion: Rev G; PackageReference: LT-S8-8; PackageDescription: 8-Pin Plastic Small Outline, Body 4.9 x 3.9 mm, Pitch 1.27 mm; Supplier 1: Digi-Key; Supplier Part Number 1: LT1219CS8#PBF-ND; Supplier 2: Newark; Supplier Part Number 2: 57M2781; RoHS: Pb-Free; Type: VFB; Mounting Technology: Surface Mount; ComponentLink1Description: Manufacturer URL; ComponentLink1URL: http://www.linear.com/; ComponentLink2Description: Datasheet; ComponentLink2URL: http://cds.linear.com/docs/en/datasheet/12189f.pdf; ComponentLink3Description: Package Specification; ComponentLink3URL: http://cds.linear.com/docs/en/packaging/05081610_G_SO8.pdf
footprint LT-S8-8_N (SOIC, 8-Leads, Body 4.9x3.9mm, Pitch 1.27mm, IPC Medium Density)
footprint LT-S8-8_L (SOIC, 8-Leads, Body 4.9x3.9mm, Pitch 1.27mm, IPC High Density)
footprint LT-S8-8_M (SOIC, 8-Leads, Body 4.9x3.9mm, Pitch 1.27mm, IPC Low Density)
pins: 1 VOS TRIM (in), 2 -IN (in), 3 +IN (in), 4 V- (power), 5 ~{SHDN} (in), 6 OUT (out), 7 V+ (power), 8 VOS TRIM (in)

## LT1219CS8#TR
designator U?
Single Channel, Low Vos Operational Amplifier, 0.15 MHz Typical GBW, 0.05 V/us Typical SR, 2 to 36 V, 8-Pin SOIC (S8-8), Commercial, Reel; Linear Technology Part Number: LT1219; Manufacturer: Linear Technology; PartNumber: LT1219CS8#TR; Channels (#): 1; GBW (MHz) Typical: 0.15; Is (mA) Typical: 0.37; SR (V/us) Typical: 0.05; Vos (mV) Typical: 0.025; Vs Max (V): 36; Vs Min (V): 2; PackageVersion: Rev G; PackageReference: LT-S8-8; PackageDescription: 8-Pin Plastic Small Outline, Body 4.9 x 3.9 mm, Pitch 1.27 mm; Supplier 1: Digi-Key; Supplier Part Number 1: LT1219CS8#TR-ND; Packing: Reel; Type: VFB; Mounting Technology: Surface Mount; ComponentLink1Description: Manufacturer URL; ComponentLink1URL: http://www.linear.com/; ComponentLink2Description: Datasheet; ComponentLink2URL: http://cds.linear.com/docs/en/datasheet/12189f.pdf; ComponentLink3Description: Package Specification; ComponentLink3URL: http://cds.linear.com/docs/en/packaging/05081610_G_SO8.pdf
footprint LT-S8-8_N (SOIC, 8-Leads, Body 4.9x3.9mm, Pitch 1.27mm, IPC Medium Density)
footprint LT-S8-8_L (SOIC, 8-Leads, Body 4.9x3.9mm, Pitch 1.27mm, IPC High Density)
footprint LT-S8-8_M (SOIC, 8-Leads, Body 4.9x3.9mm, Pitch 1.27mm, IPC Low Density)
pins: 1 VOS TRIM (in), 2 -IN (in), 3 +IN (in), 4 V- (power), 5 ~{SHDN} (in), 6 OUT (out), 7 V+ (power), 8 VOS TRIM (in)

## LT1219CS8#TRPBF
designator U?
Single Channel, Low Vos Operational Amplifier, 0.15 MHz Typical GBW, 0.05 V/us Typical SR, 2 to 36 V, 8-Pin SOIC (S8-8), Commercial, Pb-Free, Reel; Linear Technology Part Number: LT1219; Manufacturer: Linear Technology; PartNumber: LT1219CS8#TRPBF; Channels (#): 1; GBW (MHz) Typical: 0.15; Is (mA) Typical: 0.37; SR (V/us) Typical: 0.05; Vos (mV) Typical: 0.025; Vs Max (V): 36; Vs Min (V): 2; PackageVersion: Rev G; PackageReference: LT-S8-8; PackageDescription: 8-Pin Plastic Small Outline, Body 4.9 x 3.9 mm, Pitch 1.27 mm; Supplier 1: Digi-Key; Supplier Part Number 1: LT1219CS8#TRPBF-ND; Packing: Reel; RoHS: Pb-Free; Type: VFB; Mounting Technology: Surface Mount; ComponentLink1Description: Manufacturer URL; ComponentLink1URL: http://www.linear.com/; ComponentLink2Description: Datasheet; ComponentLink2URL: http://cds.linear.com/docs/en/datasheet/12189f.pdf; ComponentLink3Description: Package Specification; ComponentLink3URL: http://cds.linear.com/docs/en/packaging/05081610_G_SO8.pdf
footprint LT-S8-8_N (SOIC, 8-Leads, Body 4.9x3.9mm, Pitch 1.27mm, IPC Medium Density)
footprint LT-S8-8_L (SOIC, 8-Leads, Body 4.9x3.9mm, Pitch 1.27mm, IPC High Density)
footprint LT-S8-8_M (SOIC, 8-Leads, Body 4.9x3.9mm, Pitch 1.27mm, IPC Low Density)
pins: 1 VOS TRIM (in), 2 -IN (in), 3 +IN (in), 4 V- (power), 5 ~{SHDN} (in), 6 OUT (out), 7 V+ (power), 8 VOS TRIM (in)

## LT1219LCN8
designator U?
Single Channel, Low Vos Operational Amplifier, 0.15 MHz Typical GBW, 0.05 V/us Typical SR, 2 to 16 V, 8-Pin DIP (N8-8), Commercial; Linear Technology Part Number: LT1219L; Manufacturer: Linear Technology; PartNumber: LT1219LCN8; Channels (#): 1; GBW (MHz) Typical: 0.15; Is (mA) Typical: 0.37; SR (V/us) Typical: 0.05; Vos (mV) Typical: 0.025; Vs Max (V): 16; Vs Min (V): 2; PackageVersion: Rev I; PackageReference: LT-N8-8; PackageDescription: 8-Lead PDIP, Body 10.16 x 6.48 mm, Pitch 2.54 mm; Supplier 1: Digi-Key; Supplier Part Number 1: LT1219LCN8-ND; Type: VFB; Mounting Technology: Surface Mount; ComponentLink1Description: Manufacturer URL; ComponentLink1URL: http://www.linear.com/; ComponentLink2Description: Datasheet; ComponentLink2URL: http://cds.linear.com/docs/en/datasheet/12189f.pdf; ComponentLink3Description: Package Specification; ComponentLink3URL: http://cds.linear.com/docs/en/packaging/05081510_I_N8.pdf
footprint LT-N8-8 (DIP, 8-Leads, Body 10.16x6.48mm, Pitch 2.54mm)
pins: 1 VOS TRIM (in), 2 -IN (in), 3 +IN (in), 4 V- (power), 5 ~{SHDN} (in), 6 OUT (out), 7 V+ (power), 8 VOS TRIM (in)

## LT1219LCN8#PBF
designator U?
Single Channel, Low Vos Operational Amplifier, 0.15 MHz Typical GBW, 0.05 V/us Typical SR, 2 to 16 V, 8-Pin DIP (N8-8), Commercial, Pb-Free; Linear Technology Part Number: LT1219L; Manufacturer: Linear Technology; PartNumber: LT1219LCN8#PBF; Channels (#): 1; GBW (MHz) Typical: 0.15; Is (mA) Typical: 0.37; SR (V/us) Typical: 0.05; Vos (mV) Typical: 0.025; Vs Max (V): 16; Vs Min (V): 2; PackageVersion: Rev I; PackageReference: LT-N8-8; PackageDescription: 8-Lead PDIP, Body 10.16 x 6.48 mm, Pitch 2.54 mm; Supplier 1: Digi-Key; Supplier Part Number 1: LT1219LCN8#PBF-ND; RoHS: Pb-Free; Type: VFB; Mounting Technology: Through Hole; ComponentLink1Description: Manufacturer URL; ComponentLink1URL: http://www.linear.com/; ComponentLink2Description: Datasheet; ComponentLink2URL: http://cds.linear.com/docs/en/datasheet/12189f.pdf; ComponentLink3Description: Package Specification; ComponentLink3URL: http://cds.linear.com/docs/en/packaging/05081510_I_N8.pdf
footprint LT-N8-8 (DIP, 8-Leads, Body 10.16x6.48mm, Pitch 2.54mm)
pins: 1 VOS TRIM (in), 2 -IN (in), 3 +IN (in), 4 V- (power), 5 ~{SHDN} (in), 6 OUT (out), 7 V+ (power), 8 VOS TRIM (in)

## LT1219LCS8
designator U?
Single Channel, Low Vos Operational Amplifier, 0.15 MHz Typical GBW, 0.05 V/us Typical SR, 2 to 16 V, 8-Pin SOIC (S8-8), Commercial; Linear Technology Part Number: LT1219L; Manufacturer: Linear Technology; PartNumber: LT1219LCS8; Channels (#): 1; GBW (MHz) Typical: 0.15; Is (mA) Typical: 0.37; SR (V/us) Typical: 0.05; Vos (mV) Typical: 0.025; Vs Max (V): 16; Vs Min (V): 2; PackageVersion: Rev G; PackageReference: LT-S8-8; PackageDescription: 8-Pin Plastic Small Outline, Body 4.9 x 3.9 mm, Pitch 1.27 mm; Supplier 1: Digi-Key; Supplier Part Number 1: LT1219LCS8-ND; Type: VFB; Mounting Technology: Surface Mount; ComponentLink1Description: Manufacturer URL; ComponentLink1URL: http://www.linear.com/; ComponentLink2Description: Datasheet; ComponentLink2URL: http://cds.linear.com/docs/en/datasheet/12189f.pdf; ComponentLink3Description: Package Specification; ComponentLink3URL: http://cds.linear.com/docs/en/packaging/05081610_G_SO8.pdf
footprint LT-S8-8_N (SOIC, 8-Leads, Body 4.9x3.9mm, Pitch 1.27mm, IPC Medium Density)
footprint LT-S8-8_L (SOIC, 8-Leads, Body 4.9x3.9mm, Pitch 1.27mm, IPC High Density)
footprint LT-S8-8_M (SOIC, 8-Leads, Body 4.9x3.9mm, Pitch 1.27mm, IPC Low Density)
pins: 1 VOS TRIM (in), 2 -IN (in), 3 +IN (in), 4 V- (power), 5 ~{SHDN} (in), 6 OUT (out), 7 V+ (power), 8 VOS TRIM (in)

## LT1219LCS8#PBF
designator U?
Single Channel, Low Vos Operational Amplifier, 0.15 MHz Typical GBW, 0.05 V/us Typical SR, 2 to 16 V, 8-Pin SOIC (S8-8), Commercial, Pb-Free; Linear Technology Part Number: LT1219L; Manufacturer: Linear Technology; PartNumber: LT1219LCS8#PBF; Channels (#): 1; GBW (MHz) Typical: 0.15; Is (mA) Typical: 0.37; SR (V/us) Typical: 0.05; Vos (mV) Typical: 0.025; Vs Max (V): 16; Vs Min (V): 2; PackageVersion: Rev G; PackageReference: LT-S8-8; PackageDescription: 8-Pin Plastic Small Outline, Body 4.9 x 3.9 mm, Pitch 1.27 mm; Supplier 1: Digi-Key; Supplier Part Number 1: LT1219LCS8#PBF-ND; RoHS: Pb-Free; Type: VFB; Mounting Technology: Surface Mount; ComponentLink1Description: Manufacturer URL; ComponentLink1URL: http://www.linear.com/; ComponentLink2Description: Datasheet; ComponentLink2URL: http://cds.linear.com/docs/en/datasheet/12189f.pdf; ComponentLink3Description: Package Specification; ComponentLink3URL: http://cds.linear.com/docs/en/packaging/05081610_G_SO8.pdf
footprint LT-S8-8_N (SOIC, 8-Leads, Body 4.9x3.9mm, Pitch 1.27mm, IPC Medium Density)
footprint LT-S8-8_L (SOIC, 8-Leads, Body 4.9x3.9mm, Pitch 1.27mm, IPC High Density)
footprint LT-S8-8_M (SOIC, 8-Leads, Body 4.9x3.9mm, Pitch 1.27mm, IPC Low Density)
pins: 1 VOS TRIM (in), 2 -IN (in), 3 +IN (in), 4 V- (power), 5 ~{SHDN} (in), 6 OUT (out), 7 V+ (power), 8 VOS TRIM (in)

## LT1219LCS8#TR
designator U?
Single Channel, Low Vos Operational Amplifier, 0.15 MHz Typical GBW, 0.05 V/us Typical SR, 2 to 16 V, 8-Pin SOIC (S8-8), Commercial, Reel; Linear Technology Part Number: LT1219L; Manufacturer: Linear Technology; PartNumber: LT1219LCS8#TR; Channels (#): 1; GBW (MHz) Typical: 0.15; Is (mA) Typical: 0.37; SR (V/us) Typical: 0.05; Vos (mV) Typical: 0.025; Vs Max (V): 16; Vs Min (V): 2; PackageVersion: Rev G; PackageReference: LT-S8-8; PackageDescription: 8-Pin Plastic Small Outline, Body 4.9 x 3.9 mm, Pitch 1.27 mm; Supplier 1: Digi-Key; Supplier Part Number 1: LT1219LCS8#TR-ND; Packing: Reel; Type: VFB; Mounting Technology: Surface Mount; ComponentLink1Description: Manufacturer URL; ComponentLink1URL: http://www.linear.com/; ComponentLink2Description: Datasheet; ComponentLink2URL: http://cds.linear.com/docs/en/datasheet/12189f.pdf; ComponentLink3Description: Package Specification; ComponentLink3URL: http://cds.linear.com/docs/en/packaging/05081610_G_SO8.pdf
footprint LT-S8-8_N (SOIC, 8-Leads, Body 4.9x3.9mm, Pitch 1.27mm, IPC Medium Density)
footprint LT-S8-8_L (SOIC, 8-Leads, Body 4.9x3.9mm, Pitch 1.27mm, IPC High Density)
footprint LT-S8-8_M (SOIC, 8-Leads, Body 4.9x3.9mm, Pitch 1.27mm, IPC Low Density)
pins: 1 VOS TRIM (in), 2 -IN (in), 3 +IN (in), 4 V- (power), 5 ~{SHDN} (in), 6 OUT (out), 7 V+ (power), 8 VOS TRIM (in)

## LT1219LCS8#TRPBF
designator U?
Single Channel, Low Vos Operational Amplifier, 0.15 MHz Typical GBW, 0.05 V/us Typical SR, 2 to 16 V, 8-Pin SOIC (S8-8), Commercial, Pb-Free, Reel; Linear Technology Part Number: LT1219L; Manufacturer: Linear Technology; PartNumber: LT1219LCS8#TRPBF; Channels (#): 1; GBW (MHz) Typical: 0.15; Is (mA) Typical: 0.37; SR (V/us) Typical: 0.05; Vos (mV) Typical: 0.025; Vs Max (V): 16; Vs Min (V): 2; PackageVersion: Rev G; PackageReference: LT-S8-8; PackageDescription: 8-Pin Plastic Small Outline, Body 4.9 x 3.9 mm, Pitch 1.27 mm; Supplier 1: Digi-Key; Supplier Part Number 1: LT1219LCS8#TRPBF-ND; Packing: Reel; RoHS: Pb-Free; Type: VFB; Mounting Technology: Surface Mount; ComponentLink1Description: Manufacturer URL; ComponentLink1URL: http://www.linear.com/; ComponentLink2Description: Datasheet; ComponentLink2URL: http://cds.linear.com/docs/en/datasheet/12189f.pdf; ComponentLink3Description: Package Specification; ComponentLink3URL: http://cds.linear.com/docs/en/packaging/05081610_G_SO8.pdf
footprint LT-S8-8_N (SOIC, 8-Leads, Body 4.9x3.9mm, Pitch 1.27mm, IPC Medium Density)
footprint LT-S8-8_L (SOIC, 8-Leads, Body 4.9x3.9mm, Pitch 1.27mm, IPC High Density)
footprint LT-S8-8_M (SOIC, 8-Leads, Body 4.9x3.9mm, Pitch 1.27mm, IPC Low Density)
pins: 1 VOS TRIM (in), 2 -IN (in), 3 +IN (in), 4 V- (power), 5 ~{SHDN} (in), 6 OUT (out), 7 V+ (power), 8 VOS TRIM (in)

## LT1220CN8
designator U?
Single Channel, Fast Setting Time and C-load Operational Amplifier, 45 MHz Typical GBW, 250 V/us Typical SR, 5 to 36 V, 8-Pin DIP (N8-8), Commercial; Linear Technology Part Number: LT1220; Manufacturer: Linear Technology; PartNumber: LT1220CN8; Channels (#): 1; GBW (MHz) Typical: 45; Is (mA) Typical: 8; SR (V/us) Typical: 250; Vos (mV) Typical: 0.5; Vs Max (V): 36; Vs Min (V): 5; DatasheetVersion: Rev. B; PackageVersion: Rev I; PackageReference: LT-N8-8; PackageDescription: 8-Lead PDIP, Body 10.16 x 6.48 mm, Pitch 2.54 mm; Supplier 1: Digi-Key; Supplier Part Number 1: LT1220CN8-ND; Type: VFB; Mounting Technology: Surface Mount; ComponentLink1Description: Manufacturer URL; ComponentLink1URL: http://www.linear.com/; ComponentLink2Description: Datasheet; ComponentLink2URL: http://cds.linear.com/docs/en/datasheet/1220fb.pdf; ComponentLink3Description: Package Specification; ComponentLink3URL: http://cds.linear.com/docs/en/packaging/05081510_I_N8.pdf
footprint LT-N8-8 (DIP, 8-Leads, Body 10.16x6.48mm, Pitch 2.54mm)
pins: 1 NULL (in), 2 -IN (in), 3 +IN (in), 4 V- (power), 5 NC, 6 VOUT (out), 7 V+ (power), 8 NULL (in)

## LT1220CN8#PBF
designator U?
Single Channel, Fast Setting Time and C-load Operational Amplifier, 45 MHz Typical GBW, 250 V/us Typical SR, 5 to 36 V, 8-Pin DIP (N8-8), Commercial, Pb-Free; Linear Technology Part Number: LT1220; Manufacturer: Linear Technology; PartNumber: LT1220CN8#PBF; Channels (#): 1; GBW (MHz) Typical: 45; Is (mA) Typical: 8; SR (V/us) Typical: 250; Vos (mV) Typical: 0.5; Vs Max (V): 36; Vs Min (V): 5; DatasheetVersion: Rev. B; PackageVersion: Rev I; PackageReference: LT-N8-8; PackageDescription: 8-Lead PDIP, Body 10.16 x 6.48 mm, Pitch 2.54 mm; Supplier 1: Digi-Key; Supplier Part Number 1: LT1220CN8#PBF-ND; Supplier 2: Farnell; Supplier Part Number 2: 1330618; Supplier 3: Newark; Supplier Part Number 3: 57M2791; RoHS: Pb-Free; Type: VFB; Mounting Technology: Through Hole; ComponentLink1Description: Manufacturer URL; ComponentLink1URL: http://www.linear.com/; ComponentLink2Description: Datasheet; ComponentLink2URL: http://cds.linear.com/docs/en/datasheet/1220fb.pdf; ComponentLink3Description: Package Specification; ComponentLink3URL: http://cds.linear.com/docs/en/packaging/05081510_I_N8.pdf
footprint LT-N8-8 (DIP, 8-Leads, Body 10.16x6.48mm, Pitch 2.54mm)
pins: 1 NULL (in), 2 -IN (in), 3 +IN (in), 4 V- (power), 5 NC, 6 VOUT (out), 7 V+ (power), 8 NULL (in)

## LT1220CS8
designator U?
Single Channel, Fast Setting Time and C-load Operational Amplifier, 45 MHz Typical GBW, 250 V/us Typical SR, 5 to 36 V, 8-Pin SOIC (S8-8), Commercial; Linear Technology Part Number: LT1220; Manufacturer: Linear Technology; PartNumber: LT1220CS8; Channels (#): 1; GBW (MHz) Typical: 45; Is (mA) Typical: 8; SR (V/us) Typical: 250; Vos (mV) Typical: 0.5; Vs Max (V): 36; Vs Min (V): 5; DatasheetVersion: Rev. B; PackageVersion: Rev G; PackageReference: LT-S8-8; PackageDescription: 8-Pin Plastic Small Outline, Body 4.9 x 3.9 mm, Pitch 1.27 mm; Supplier 1: Newark; Supplier Part Number 1: 57M2792; Type: VFB; Mounting Technology: Surface Mount; ComponentLink1Description: Manufacturer URL; ComponentLink1URL: http://www.linear.com/; ComponentLink2Description: Datasheet; ComponentLink2URL: http://cds.linear.com/docs/en/datasheet/1220fb.pdf; ComponentLink3Description: Package Specification; ComponentLink3URL: http://cds.linear.com/docs/en/packaging/05081610_G_SO8.pdf
footprint LT-S8-8_N (SOIC, 8-Leads, Body 4.9x3.9mm, Pitch 1.27mm, IPC Medium Density)
footprint LT-S8-8_L (SOIC, 8-Leads, Body 4.9x3.9mm, Pitch 1.27mm, IPC High Density)
footprint LT-S8-8_M (SOIC, 8-Leads, Body 4.9x3.9mm, Pitch 1.27mm, IPC Low Density)
pins: 1 NULL (in), 2 -IN (in), 3 +IN (in), 4 V- (power), 5 NC, 6 VOUT (out), 7 V+ (power), 8 NULL (in)

## LT1220CS8#PBF
designator U?
Single Channel, Fast Setting Time and C-load Operational Amplifier, 45 MHz Typical GBW, 250 V/us Typical SR, 5 to 36 V, 8-Pin SOIC (S8-8), Commercial, Pb-Free; Linear Technology Part Number: LT1220; Manufacturer: Linear Technology; PartNumber: LT1220CS8#PBF; Channels (#): 1; GBW (MHz) Typical: 45; Is (mA) Typical: 8; SR (V/us) Typical: 250; Vos (mV) Typical: 0.5; Vs Max (V): 36; Vs Min (V): 5; DatasheetVersion: Rev. B; PackageVersion: Rev G; PackageReference: LT-S8-8; PackageDescription: 8-Pin Plastic Small Outline, Body 4.9 x 3.9 mm, Pitch 1.27 mm; Supplier 1: Digi-Key; Supplier Part Number 1: LT1220CS8#PBF-ND; Supplier 2: Farnell; Supplier Part Number 2: 1663400; Supplier 3: Newark; Supplier Part Number 3: 57M2793; RoHS: Pb-Free; Type: VFB; Mounting Technology: Surface Mount; ComponentLink1Description: Manufacturer URL; ComponentLink1URL: http://www.linear.com/; ComponentLink2Description: Datasheet; ComponentLink2URL: http://cds.linear.com/docs/en/datasheet/1220fb.pdf; ComponentLink3Description: Package Specification; ComponentLink3URL: http://cds.linear.com/docs/en/packaging/05081610_G_SO8.pdf
footprint LT-S8-8_N (SOIC, 8-Leads, Body 4.9x3.9mm, Pitch 1.27mm, IPC Medium Density)
footprint LT-S8-8_L (SOIC, 8-Leads, Body 4.9x3.9mm, Pitch 1.27mm, IPC High Density)
footprint LT-S8-8_M (SOIC, 8-Leads, Body 4.9x3.9mm, Pitch 1.27mm, IPC Low Density)
pins: 1 NULL (in), 2 -IN (in), 3 +IN (in), 4 V- (power), 5 NC, 6 VOUT (out), 7 V+ (power), 8 NULL (in)

## LT1220CS8#TR
designator U?
Single Channel, Fast Setting Time and C-load Operational Amplifier, 45 MHz Typical GBW, 250 V/us Typical SR, 5 to 36 V, 8-Pin SOIC (S8-8), Commercial, Reel; Linear Technology Part Number: LT1220; Manufacturer: Linear Technology; PartNumber: LT1220CS8#TR; Channels (#): 1; GBW (MHz) Typical: 45; Is (mA) Typical: 8; SR (V/us) Typical: 250; Vos (mV) Typical: 0.5; Vs Max (V): 36; Vs Min (V): 5; DatasheetVersion: Rev. B; PackageVersion: Rev G; PackageReference: LT-S8-8; PackageDescription: 8-Pin Plastic Small Outline, Body 4.9 x 3.9 mm, Pitch 1.27 mm; Supplier 1: Digi-Key; Supplier Part Number 1: LT1220CS8#TR-ND; Packing: Reel; Type: VFB; Mounting Technology: Surface Mount; ComponentLink1Description: Manufacturer URL; ComponentLink1URL: http://www.linear.com/; ComponentLink2Description: Datasheet; ComponentLink2URL: http://cds.linear.com/docs/en/datasheet/1220fb.pdf; ComponentLink3Description: Package Specification; ComponentLink3URL: http://cds.linear.com/docs/en/packaging/05081610_G_SO8.pdf
footprint LT-S8-8_N (SOIC, 8-Leads, Body 4.9x3.9mm, Pitch 1.27mm, IPC Medium Density)
footprint LT-S8-8_L (SOIC, 8-Leads, Body 4.9x3.9mm, Pitch 1.27mm, IPC High Density)
footprint LT-S8-8_M (SOIC, 8-Leads, Body 4.9x3.9mm, Pitch 1.27mm, IPC Low Density)
pins: 1 NULL (in), 2 -IN (in), 3 +IN (in), 4 V- (power), 5 NC, 6 VOUT (out), 7 V+ (power), 8 NULL (in)

## LT1220CS8#TRPBF
designator U?
Single Channel, Fast Setting Time and C-load Operational Amplifier, 45 MHz Typical GBW, 250 V/us Typical SR, 5 to 36 V, 8-Pin SOIC (S8-8), Commercial, Pb-Free, Reel; Linear Technology Part Number: LT1220; Manufacturer: Linear Technology; PartNumber: LT1220CS8#TRPBF; Channels (#): 1; GBW (MHz) Typical: 45; Is (mA) Typical: 8; SR (V/us) Typical: 250; Vos (mV) Typical: 0.5; Vs Max (V): 36; Vs Min (V): 5; DatasheetVersion: Rev. B; PackageVersion: Rev G; PackageReference: LT-S8-8; PackageDescription: 8-Pin Plastic Small Outline, Body 4.9 x 3.9 mm, Pitch 1.27 mm; Supplier 1: Digi-Key; Supplier Part Number 1: LT1220CS8#TRPBF-ND; Packing: Reel; RoHS: Pb-Free; Type: VFB; Mounting Technology: Surface Mount; ComponentLink1Description: Manufacturer URL; ComponentLink1URL: http://www.linear.com/; ComponentLink2Description: Datasheet; ComponentLink2URL: http://cds.linear.com/docs/en/datasheet/1220fb.pdf; ComponentLink3Description: Package Specification; ComponentLink3URL: http://cds.linear.com/docs/en/packaging/05081610_G_SO8.pdf
footprint LT-S8-8_N (SOIC, 8-Leads, Body 4.9x3.9mm, Pitch 1.27mm, IPC Medium Density)
footprint LT-S8-8_L (SOIC, 8-Leads, Body 4.9x3.9mm, Pitch 1.27mm, IPC High Density)
footprint LT-S8-8_M (SOIC, 8-Leads, Body 4.9x3.9mm, Pitch 1.27mm, IPC Low Density)
pins: 1 NULL (in), 2 -IN (in), 3 +IN (in), 4 V- (power), 5 NC, 6 VOUT (out), 7 V+ (power), 8 NULL (in)